# Altium footprint library RRACK.PcbLib: 1 footprints
Each footprint in its own frame and in the unit in brackets; x right, y up, seen from the top. Pads: shape width x height; smd on the part's side, far side on the other; paste and mask are expansions set on the pad; w line width, h text height; cw(c..) or ccw(c..) is an arc to the next point about the centre after c.
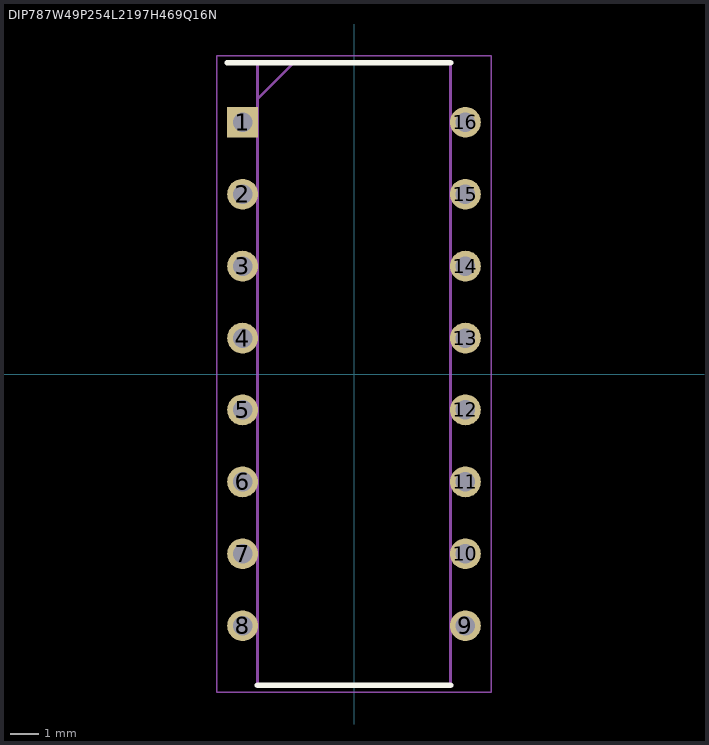
[diagram p0: the footprint, top view; thin cyan lines are the x and y axes]

## DIP787W49P254L2197H469Q16N [mm]
pads (16):
  rect 1.088x1.088 / inner round 1.088 / far side rect 1.088x1.088 hole 0.688: 1(-3.935,8.89)
  round 1.088 hole 0.688: 2(-3.935,6.35) 3(-3.935,3.81) 4(-3.935,1.27) 5(-3.935,-1.27) 6(-3.935,-3.81) 7(-3.935,-6.35) 8(-3.935,-8.89) 9(3.935,-8.89) 10(3.935,-6.35) 11(3.935,-3.81) 12(3.935,-1.27) 13(3.935,1.27) 14(3.935,3.81) 15(3.935,6.35) 16(3.935,8.89)
Top Overlay:
  lines w0.2: -4.479,10.985 3.405,10.985 ; -3.405,-10.985 3.405,-10.985
Mechanical 15:
  lines w0.1: -3.405,9.715 -2.135,10.985 ; -3.405,-10.985 3.405,-10.985 3.405,10.985 -3.405,10.985 -3.405,-10.985
Mechanical 20:
  lines w0.05: -4.854,-11.235 4.854,-11.235 4.854,11.235 -4.854,11.235 -4.854,-11.235